# Altium schematic symbol library IRLZ44N.SchLib: 1 symbol
Pins are listed as number, name and electrical type; pins without a type are passive.

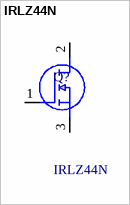
[diagram p0: symbol IRLZ44N]

## IRLZ44N
designator Q?
MOSFET MOSFET, 55V, 41A, 22 mOhm, 32 nC Qg, Logic Level, TO-220AB; Manufacturer_Name: Infineon; Geometry.Height: 4.69mm; Manufacturer_Part_Number: IRLZ44N; Mouser Part Number: N/A; Mouser Price/Stock: https://www.mouser.co.uk/ProductDetail/Infineon-IR/IRLZ44N?qs=zO0nedAqnNIAphT7g5cSVQ%3D%3D; Arrow Part Number: *; Arrow Price/Stock: *; Datasheet Link: https://www.mouser.com/catalog/specsheets/international rectifier_irlz44n.pdf
footprint TO254P469X1042X1967-3P
pins: 1 G, 2 D, 3 S